# Altium schematic symbol library IC_FSUSB20.SchLib: 1 symbol
Pins are listed as number, name and electrical type; pins without a type are passive.

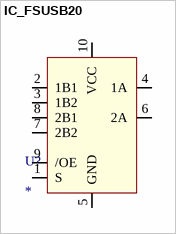
[diagram p0: symbol IC_FSUSB20]

## IC_FSUSB20
designator U?
pins: 1 S, 2 1B1, 3 1B2, 4 1A, 5 GND, 6 2A, 7 2B2, 8 2B1, 9 /OE, 10 VCC